# EAGLE library part DS8837 (library dec-con)
Hex inverting LINE RECEIVER
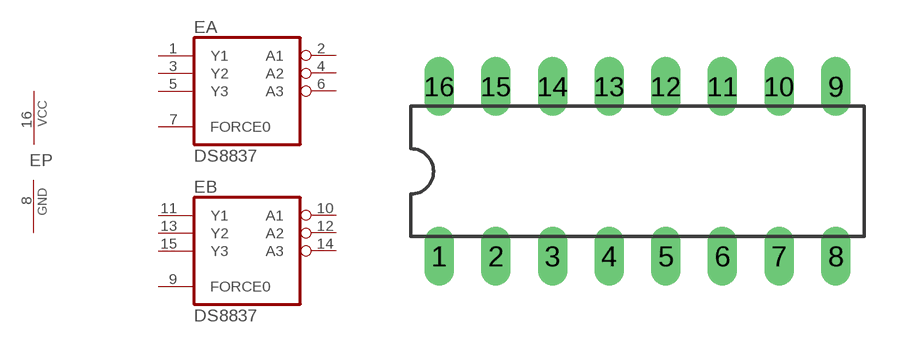
[diagram p2: symbol with the pads of DIL16; footprint DIL16]

Designator prefix E; gates P=PWRN A=8837 B=8837

## DS8837N  [DIL16]
1  A:Y1  in
2  A:A1  out
3  A:Y2  in
4  A:A2  out
5  A:Y3  in
6  A:A3  out
7  A:FORCE0  in
8  P:GND  pwr
9  B:FORCE0  in
10  B:A1  out
11  B:Y1  in
12  B:A2  out
13  B:Y2  in
14  B:A3  out
15  B:Y3  in
16  P:VCC  pwr

## Footprint DIL16 (pad centres in mm)
Dual In Line Package
drill 0.813 long: 1 -8.89,-3.81; 2 -6.35,-3.81; 3 -3.81,-3.81; 4 -1.27,-3.81; 5 1.27,-3.81; 6 3.81,-3.81; 7 6.35,-3.81; 8 8.89,-3.81; 9 8.89,3.81; 10 6.35,3.81; 11 3.81,3.81; 12 1.27,3.81; 13 -1.27,3.81; 14 -3.81,3.81; 15 -6.35,3.81; 16 -8.89,3.81